# EAGLE library part LSM303D (library LSM303D)
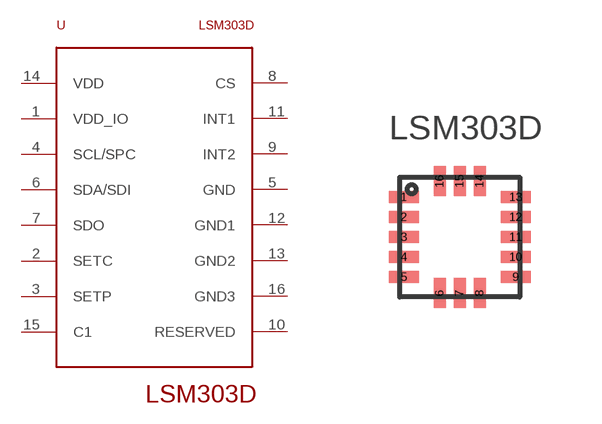
[diagram p0: symbol with the pads of TFLGA16L; footprint TFLGA16L]

Designator prefix U

## LSM303D  [TFLGA16L]
1  VDD_IO  pwr
2  SETC
3  SETP
4  SCL/SPC
5  GND  pwr
6  SDA/SDI
7  SDO
8  CS
9  INT2
10  RESERVED
11  INT1
12  GND1  pwr
13  GND2
14  VDD
15  C1
16  GND3

## Footprint TFLGA16L (pad centres in mm)
smd 0.75 x 0.3: 1 -1.4,1; 2 -1.4,0.5; 3 -1.4,0; 4 -1.4,-0.5; 5 -1.4,-1; 9 1.4,-1; 10 1.4,-0.5; 11 1.4,0; 12 1.4,0.5; 13 1.4,1
smd 0.3 x 0.75: 6 -0.5,-1.4; 7 0,-1.4; 8 0.5,-1.4; 14 0.5,1.4; 15 0,1.4; 16 -0.5,1.4